# EAGLE library part DRV8313 (library ic-TI)
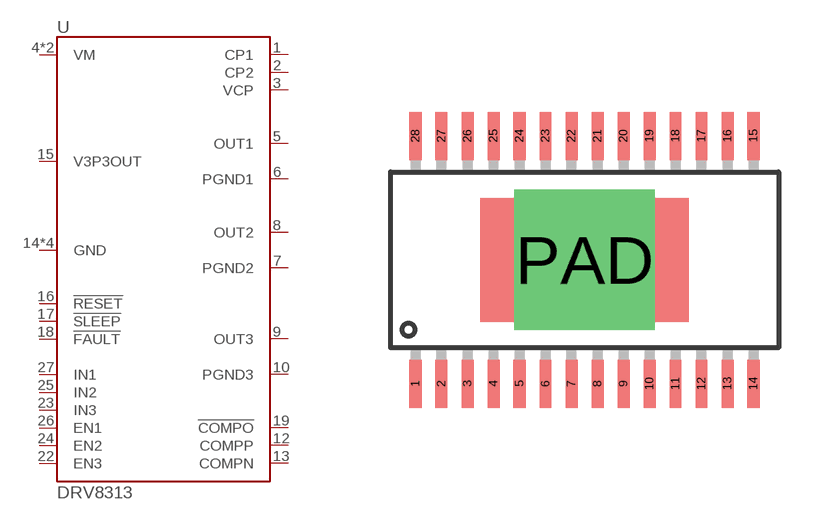
[diagram p54: symbol with the pads of HTSSOP28; footprint HTSSOP28]

Designator prefix U

## DRV8313  [HTSSOP28]
1  CP1
2  CP2
3  VCP
4  VM
5  OUT1
6  PGND1
7  PGND2
8  OUT2
9  OUT3
10  PGND3
11  VM
12  COMPP
13  COMPN
14  GND
15  V3P3OUT
16  !RESET
17  !SLEEP
18  !FAULT
19  !COMPO
20  GND
22  EN3
23  IN3
24  EN2
25  IN2
26  EN1
27  IN1
28  GND
PAD  GND

## Footprint HTSSOP28 (pad centres in mm)
smd 0.3 x 1.2: 1 -4.225,-3.1; 2 -3.575,-3.1; 3 -2.925,-3.1; 4 -2.275,-3.1; 5 -1.625,-3.1; 6 -0.975,-3.1; 7 -0.325,-3.1; 8 0.325,-3.1; 9 0.975,-3.1; 10 1.625,-3.1; 11 2.275,-3.1; 12 2.925,-3.1; 13 3.575,-3.1; 14 4.225,-3.1; 15 4.225,3.1; 16 3.575,3.1; 17 2.925,3.1; 18 2.275,3.1; 19 1.625,3.1; 20 0.975,3.1; 21 0.325,3.1; 22 -0.325,3.1; 23 -0.975,3.1; 24 -1.625,3.1; 25 -2.275,3.1; 26 -2.925,3.1; 27 -3.575,3.1; 28 -4.225,3.1
drill 2.5 pad 3.1 square: PAD 0,0